# Altium footprint library Connector_FFC-FPC.PcbLib: 184 footprints (part 5 of 12)
Each footprint in its own frame and in the unit in brackets; x right, y up, seen from the top. Pads: shape width x height; smd on the part's side, far side on the other; paste and mask are expansions set on the pad; w line width, h text height; cw(c..) or ccw(c..) is an arc to the next point about the centre after c.
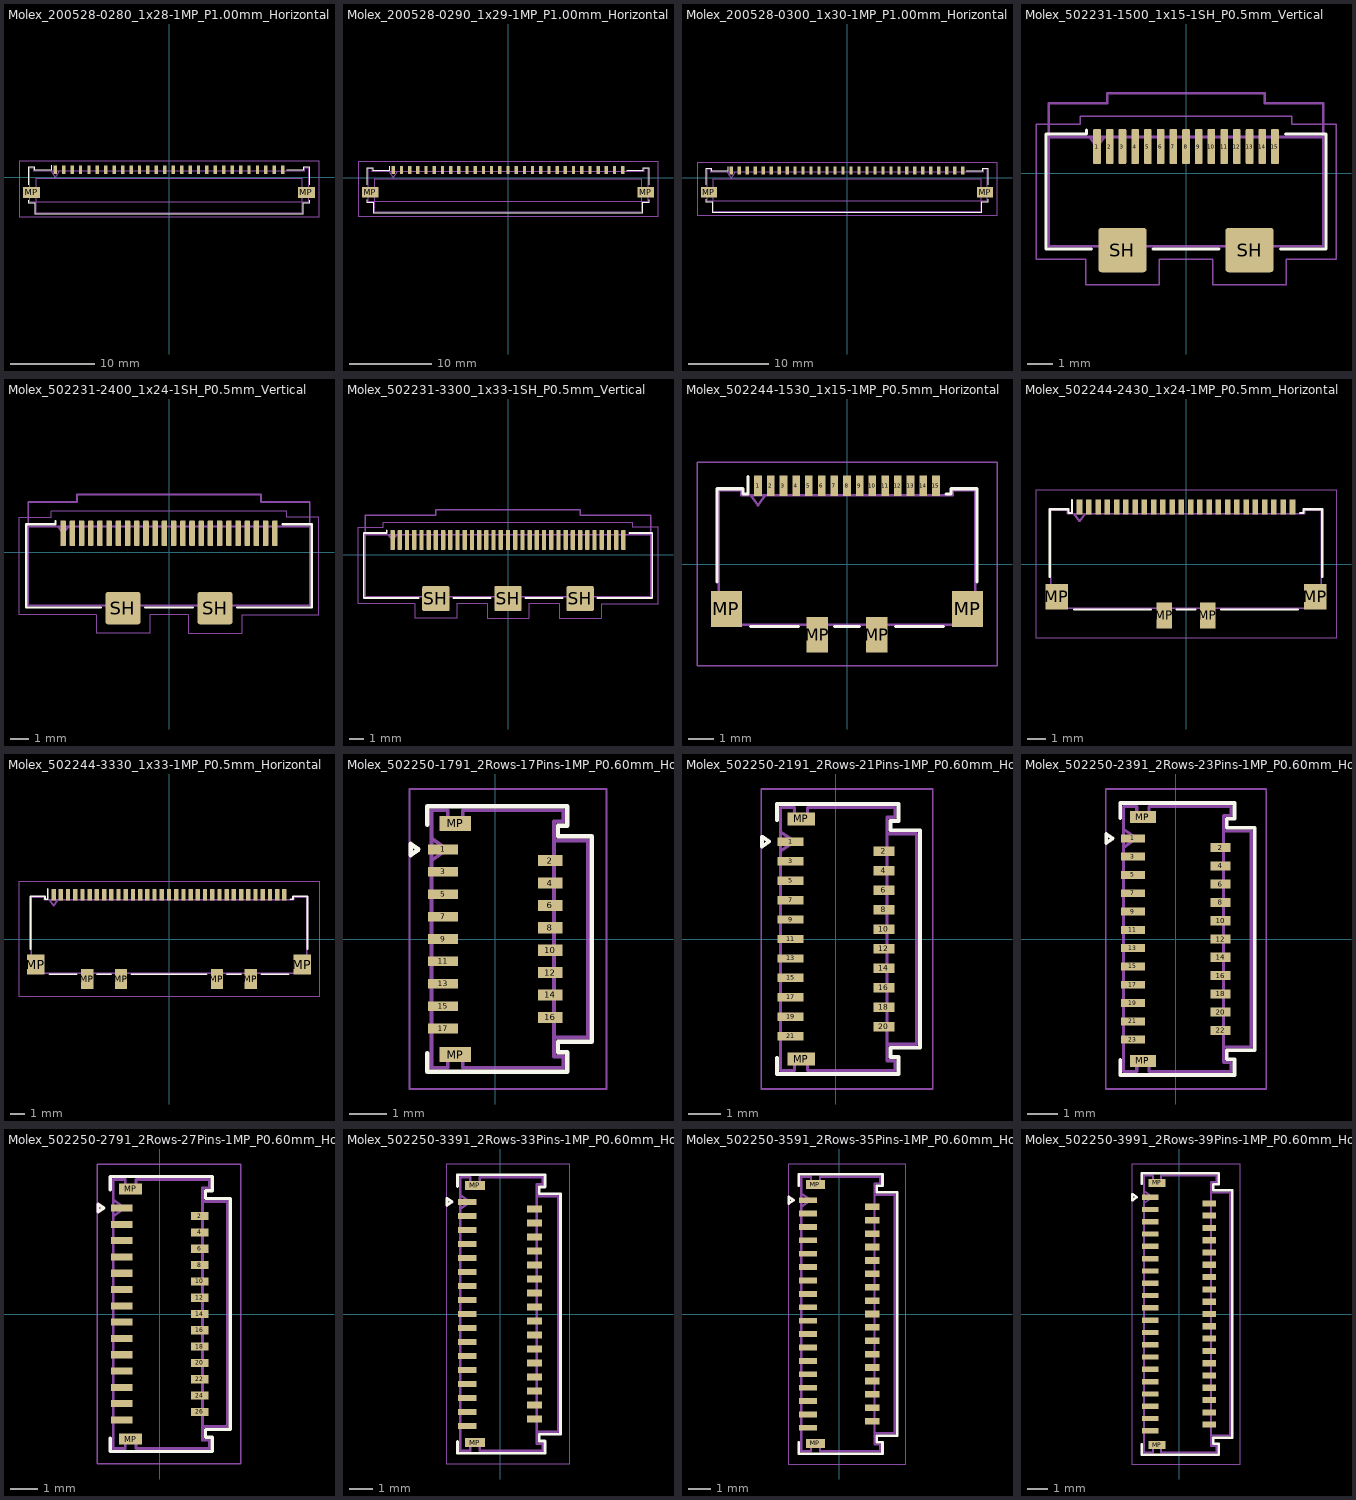
[diagram p4: the footprints below, top view; thin cyan lines are the x and y axes]

## Molex_200528-0280_1x28-1MP_P1.00mm_Horizontal [mm]
pads (30):
  rect 0.4x1 smd: 1(-13.5,0.91) 2(-12.5,0.91) 3(-11.5,0.91) 4(-10.5,0.91) 5(-9.5,0.91) 6(-8.5,0.91) 7(-7.5,0.91) 8(-6.5,0.91) 9(-5.5,0.91) 10(-4.5,0.91) 11(-3.5,0.91) 12(-2.5,0.91) 13(-1.5,0.91) 14(-0.5,0.91) 15(0.5,0.91) 16(1.5,0.91) 17(2.5,0.91) 18(3.5,0.91) 19(4.5,0.91) 20(5.5,0.91) 21(6.5,0.91) 22(7.5,0.91) 23(8.5,0.91) 24(9.5,0.91) 25(10.5,0.91) 26(11.5,0.91) 27(12.5,0.91) 28(13.5,0.91)
  rect 2x1.3 smd: MP(-16.3,-1.79) MP(16.3,-1.79)
F.SilkS:
  lines w0.12: -16.71,-2.7 -16.71,-3 -15.91,-3 -15.91,-4.3 15.91,-4.3 15.91,-3 16.71,-3 16.71,-2.7 ; -16.71,-0.88 -16.71,1.17 -15.94,1.17 -15.94,0.82 -13.96,0.82 -13.96,1.41 ; 13.96,0.82 15.94,0.82 15.94,1.17 16.71,1.17 16.71,-0.88
F.CrtYd:
  lines w0.05: -17.8,-4.69 -17.8,1.91 17.8,1.91 17.8,-4.69 -17.8,-4.69
F.Fab:
  lines w0.1: -14,0.71 -13.5,-0.04 -13,0.71 ; -16.6,-2.89 16.6,-2.89 16.6,1.06 16.05,1.06 16.05,0.71 -16.05,0.71 -16.05,1.06 -16.6,1.06 -16.6,-2.89 ; -15.8,-4.19 15.8,-4.19 15.8,-0.19 -15.8,-0.19 -15.8,-4.19
  text "'.Designator'" at -4.047,-2.23 h1

## Molex_200528-0290_1x29-1MP_P1.00mm_Horizontal [mm]
pads (31):
  rect 0.4x1 smd: 1(-14,0.91) 2(-13,0.91) 3(-12,0.91) 4(-11,0.91) 5(-10,0.91) 6(-9,0.91) 7(-8,0.91) 8(-7,0.91) 9(-6,0.91) 10(-5,0.91) 11(-4,0.91) 12(-3,0.91) 13(-2,0.91) 14(-1,0.91) 15(0,0.91) 16(1,0.91) 17(2,0.91) 18(3,0.91) 19(4,0.91) 20(5,0.91) 21(6,0.91) 22(7,0.91) 23(8,0.91) 24(9,0.91) 25(10,0.91) 26(11,0.91) 27(12,0.91) 28(13,0.91) 29(14,0.91)
  rect 2x1.3 smd: MP(-16.8,-1.79) MP(16.8,-1.79)
F.SilkS:
  lines w0.12: -17.21,-2.7 -17.21,-3 -16.41,-3 -16.41,-4.3 16.41,-4.3 16.41,-3 17.21,-3 17.21,-2.7 ; -17.21,-0.88 -17.21,1.17 -16.44,1.17 -16.44,0.82 -14.46,0.82 -14.46,1.41 ; 14.46,0.82 16.44,0.82 16.44,1.17 17.21,1.17 17.21,-0.88
F.CrtYd:
  lines w0.05: -18.3,-4.69 -18.3,1.91 18.3,1.91 18.3,-4.69 -18.3,-4.69
F.Fab:
  lines w0.1: -14.5,0.71 -14,-0.04 -13.5,0.71 ; -17.1,-2.89 17.1,-2.89 17.1,1.06 16.55,1.06 16.55,0.71 -16.55,0.71 -16.55,1.06 -17.1,1.06 -17.1,-2.89 ; -16.3,-4.19 -16.3,-0.19 16.3,-0.19 16.3,-4.19 -16.3,-4.19
  text "'.Designator'" at -4.047,-2.23 h1

## Molex_200528-0300_1x30-1MP_P1.00mm_Horizontal [mm]
pads (32):
  rect 0.4x1 smd: 1(-14.5,0.91) 2(-13.5,0.91) 3(-12.5,0.91) 4(-11.5,0.91) 5(-10.5,0.91) 6(-9.5,0.91) 7(-8.5,0.91) 8(-7.5,0.91) 9(-6.5,0.91) 10(-5.5,0.91) 11(-4.5,0.91) 12(-3.5,0.91) 13(-2.5,0.91) 14(-1.5,0.91) 15(-0.5,0.91) 16(0.5,0.91) 17(1.5,0.91) 18(2.5,0.91) 19(3.5,0.91) 20(4.5,0.91) 21(5.5,0.91) 22(6.5,0.91) 23(7.5,0.91) 24(8.5,0.91) 25(9.5,0.91) 26(10.5,0.91) 27(11.5,0.91) 28(12.5,0.91) 29(13.5,0.91) 30(14.5,0.91)
  rect 2x1.3 smd: MP(-17.3,-1.79) MP(17.3,-1.79)
F.SilkS:
  lines w0.12: -17.71,-2.7 -17.71,-3 -16.91,-3 -16.91,-4.3 16.91,-4.3 16.91,-3 17.71,-3 17.71,-2.7 ; -17.71,-0.88 -17.71,1.17 -16.94,1.17 -16.94,0.82 -14.96,0.82 -14.96,1.41 ; 14.96,0.82 16.94,0.82 16.94,1.17 17.71,1.17 17.71,-0.88
F.CrtYd:
  lines w0.05: -18.8,-4.69 -18.8,1.91 18.8,1.91 18.8,-4.69 -18.8,-4.69
F.Fab:
  lines w0.1: -15,0.71 -14.5,-0.04 -14,0.71 ; -17.6,-2.89 -17.6,1.06 -17.05,1.06 -17.05,0.71 17.05,0.71 17.05,1.06 17.6,1.06 17.6,-2.89 -17.6,-2.89 ; -16.8,-4.19 -16.8,-0.19 16.8,-0.19 16.8,-4.19 -16.8,-4.19
  text "'.Designator'" at -4.047,-2.23 h1

## Molex_502231-1500_1x15-1SH_P0.5mm_Vertical [mm]
pads (17):
  rrect25% 0.3x1.37 smd: 1(-3.5,1.045) 2(-3,1.045) 3(-2.5,1.045) 4(-2,1.045) 5(-1.5,1.045) 6(-1,1.045) 7(-0.5,1.045) 8(0,1.045) 9(0.5,1.045) 10(1,1.045) 11(1.5,1.045) 12(2,1.045) 13(2.5,1.045) 14(3,1.045) 15(3.5,1.045)
  rrect14% 1.9x1.75 smd: SH(-2.5,-3.025) SH(2.5,-3.025)
F.SilkS:
  lines w0.12: -3.91,1.7 -3.91,1.53 -5.51,1.53 -5.51,-2.99 -3.71,-2.99 ; -1.29,-2.99 1.29,-2.99 ; 3.71,-2.99 5.51,-2.99 5.51,1.53 3.91,1.53
F.CrtYd:
  lines w0.05: -5.9,-3.38 -3.95,-3.38 -3.95,-4.4 -1.05,-4.4 -1.05,-3.38 1.05,-3.38 1.05,-4.4 3.95,-4.4 3.95,-3.38 5.9,-3.38 5.9,1.92 4.15,1.92 4.15,2.23 -4.15,2.23 -4.15,1.92 -5.9,1.92 -5.9,-3.38
F.Fab:
  lines w0.1: -3.8,1.42 -3.5,1.02 -3.2,1.42 ; -5.4,-2.88 -5.4,1.42 5.4,1.42 5.4,-2.88 -5.4,-2.88
  text "'.Designator'" at -4.047,-1.57 h1
Cmts.User:
  lines w0.1: -5.4,1.42 -5.4,2.75 -3.1,2.75 -3.1,3.15 3.1,3.15 3.1,2.75 5.4,2.75 5.4,1.42
  text "Lock at height 2.4mm" at -3.883,1.865 h0.5

## Molex_502231-2400_1x24-1SH_P0.5mm_Vertical [mm]
pads (26):
  rrect25% 0.3x1.37 smd: 1(-5.75,1.045) 2(-5.25,1.045) 3(-4.75,1.045) 4(-4.25,1.045) 5(-3.75,1.045) 6(-3.25,1.045) 7(-2.75,1.045) 8(-2.25,1.045) 9(-1.75,1.045) 10(-1.25,1.045) 11(-0.75,1.045) 12(-0.25,1.045) 13(0.25,1.045) 14(0.75,1.045) 15(1.25,1.045) 16(1.75,1.045) 17(2.25,1.045) 18(2.75,1.045) 19(3.25,1.045) 20(3.75,1.045) 21(4.25,1.045) 22(4.75,1.045) 23(5.25,1.045) 24(5.75,1.045)
  rrect14% 1.9x1.75 smd: SH(-2.5,-3.025) SH(2.5,-3.025)
F.SilkS:
  lines w0.12: -6.16,1.7 -6.16,1.53 -7.76,1.53 -7.76,-2.99 -3.71,-2.99 ; -1.29,-2.99 1.29,-2.99 ; 3.71,-2.99 7.76,-2.99 7.76,1.53 6.16,1.53
F.CrtYd:
  lines w0.05: -8.15,-3.38 -8.15,1.92 -6.4,1.92 -6.4,2.23 6.4,2.23 6.4,1.92 8.15,1.92 8.15,-3.38 3.95,-3.38 3.95,-4.4 1.05,-4.4 1.05,-3.38 -1.05,-3.38 -1.05,-4.4 -3.95,-4.4 -3.95,-3.38 -8.15,-3.38
F.Fab:
  lines w0.1: -6.05,1.42 -5.75,1.02 -5.45,1.42 ; -7.65,-2.88 7.65,-2.88 7.65,1.42 -7.65,1.42 -7.65,-2.88
  text "'.Designator'" at -4.047,-1.57 h1
Cmts.User:
  lines w0.1: -7.65,1.42 -7.65,2.75 -5,2.75 -5,3.15 5,3.15 5,2.75 7.65,2.75 7.65,1.42
  text "Lock at height 2.4mm" at -3.883,1.865 h0.5

## Molex_502231-3300_1x33-1SH_P0.5mm_Vertical [mm]
pads (36):
  rrect25% 0.3x1.37 smd: 1(-8,1.045) 2(-7.5,1.045) 3(-7,1.045) 4(-6.5,1.045) 5(-6,1.045) 6(-5.5,1.045) 7(-5,1.045) 8(-4.5,1.045) 9(-4,1.045) 10(-3.5,1.045) 11(-3,1.045) 12(-2.5,1.045) 13(-2,1.045) 14(-1.5,1.045) 15(-1,1.045) 16(-0.5,1.045) 17(0,1.045) 18(0.5,1.045) 19(1,1.045) 20(1.5,1.045) 21(2,1.045) 22(2.5,1.045) 23(3,1.045) 24(3.5,1.045) 25(4,1.045) 26(4.5,1.045) 27(5,1.045) 28(5.5,1.045) 29(6,1.045) 30(6.5,1.045) 31(7,1.045) 32(7.5,1.045) 33(8,1.045)
  rrect14% 1.9x1.75 smd: SH(-5,-3.025) SH(0,-3.025) SH(5,-3.025)
F.SilkS:
  lines w0.12: -8.41,1.7 -8.41,1.53 -10.01,1.53 -10.01,-2.99 -6.21,-2.99 ; -3.79,-2.99 -1.21,-2.99 ; 1.21,-2.99 3.79,-2.99 ; 6.21,-2.99 10.01,-2.99 10.01,1.53 8.41,1.53
F.CrtYd:
  lines w0.05: -10.4,-3.38 -10.4,1.92 -8.65,1.92 -8.65,2.23 8.65,2.23 8.65,1.92 10.4,1.92 10.4,-3.38 6.45,-3.38 6.45,-4.4 3.55,-4.4 3.55,-3.38 1.45,-3.38 1.45,-4.4 -1.45,-4.4 -1.45,-3.38 -3.55,-3.38 -3.55,-4.4 -6.45,-4.4 -6.45,-3.38 -10.4,-3.38
F.Fab:
  lines w0.1: -8.3,1.42 -8,1.02 -7.7,1.42 ; -9.9,-2.88 9.9,-2.88 9.9,1.42 -9.9,1.42 -9.9,-2.88
  text "'.Designator'" at -4.047,-1.57 h1
Cmts.User:
  lines w0.1: -9.9,1.42 -9.9,2.75 -5,2.75 -5,3.15 5,3.15 5,2.75 9.9,2.75 9.9,1.42
  text "Lock at height 2.4mm" at -3.883,1.865 h0.5

## Molex_502244-1530_1x15-1MP_P0.5mm_Horizontal [mm]
pads (19):
  rect 0.3x0.8 smd: 1(-3.5,3.08) 2(-3,3.08) 3(-2.5,3.08) 4(-2,3.08) 5(-1.5,3.08) 6(-1,3.08) 7(-0.5,3.08) 8(0,3.08) 9(0.5,3.08) 10(1,3.08) 11(1.5,3.08) 12(2,3.08) 13(2.5,3.08) 14(3,3.08) 15(3.5,3.08)
  rect 1.22x1.4 smd: MP(-4.74,-1.77) MP(4.74,-1.77)
  rect 0.85x1.4 smd: MP(-1.175,-2.78) MP(1.175,-2.78)
F.SilkS:
  lines w0.12: -5.11,-0.7 -5.11,2.96 -4.1,2.96 ; -4.09,2.96 -4.09,2.76 -3.9,2.76 -3.9,3.45 ; -3.8,-2.45 -1.9,-2.45 ; -0.5,-2.45 0.5,-2.45 ; 1.9,-2.45 3.8,-2.45 ; 3.9,2.76 4.09,2.76 4.09,2.96 ; 4.1,2.96 5.11,2.96 5.11,-0.7
F.CrtYd:
  lines w0.05: -5.9,-4 5.9,-4 5.9,4 -5.9,4 -5.9,-4
F.Fab:
  lines w0.1: -3.8,2.71 -3.5,2.31 -3.2,2.71 ; -5.05,-2.39 5.05,-2.39 5.05,2.91 4.15,2.91 4.15,2.71 -4.15,2.71 -4.15,2.91 -5.05,2.91 -5.05,-2.39
  text "'.Designator'" at -4.047,0.16 h1
Cmts.User:
  text "KEEPOUT" at -3.078,-1.871 h1

## Molex_502244-2430_1x24-1MP_P0.5mm_Horizontal [mm]
pads (28):
  rect 0.3x0.8 smd: 1(-5.75,3.08) 2(-5.25,3.08) 3(-4.75,3.08) 4(-4.25,3.08) 5(-3.75,3.08) 6(-3.25,3.08) 7(-2.75,3.08) 8(-2.25,3.08) 9(-1.75,3.08) 10(-1.25,3.08) 11(-0.75,3.08) 12(-0.25,3.08) 13(0.25,3.08) 14(0.75,3.08) 15(1.25,3.08) 16(1.75,3.08) 17(2.25,3.08) 18(2.75,3.08) 19(3.25,3.08) 20(3.75,3.08) 21(4.25,3.08) 22(4.75,3.08) 23(5.25,3.08) 24(5.75,3.08)
  rect 1.22x1.4 smd: MP(-6.99,-1.77) MP(6.99,-1.77)
  rect 0.85x1.4 smd: MP(-1.175,-2.78) MP(1.175,-2.78)
F.SilkS:
  lines w0.12: -7.36,-0.7 -7.36,2.96 -6.35,2.96 ; -6.34,2.96 -6.34,2.76 -6.15,2.76 -6.15,3.45 ; -6.05,-2.45 -1.9,-2.45 ; -0.5,-2.45 0.5,-2.45 ; 1.9,-2.45 6.05,-2.45 ; 6.15,2.76 6.34,2.76 6.34,2.96 ; 6.35,2.96 7.36,2.96 7.36,-0.7
F.CrtYd:
  lines w0.05: -8.1,-4 -8.1,4 8.1,4 8.1,-4 -8.1,-4
F.Fab:
  lines w0.1: -6.05,2.71 -5.75,2.31 -5.45,2.71 ; -7.3,-2.39 -7.3,2.91 -6.4,2.91 -6.4,2.71 6.4,2.71 6.4,2.91 7.3,2.91 7.3,-2.39 -7.3,-2.39
  text "'.Designator'" at -4.047,0.16 h1
Cmts.User:
  text "KEEPOUT" at -3.078,-1.871 h1

## Molex_502244-3330_1x33-1MP_P0.5mm_Horizontal [mm]
pads (39):
  rect 0.3x0.8 smd: 1(-8,3.08) 2(-7.5,3.08) 3(-7,3.08) 4(-6.5,3.08) 5(-6,3.08) 6(-5.5,3.08) 7(-5,3.08) 8(-4.5,3.08) 9(-4,3.08) 10(-3.5,3.08) 11(-3,3.08) 12(-2.5,3.08) 13(-2,3.08) 14(-1.5,3.08) 15(-1,3.08) 16(-0.5,3.08) 17(0,3.08) 18(0.5,3.08) 19(1,3.08) 20(1.5,3.08) 21(2,3.08) 22(2.5,3.08) 23(3,3.08) 24(3.5,3.08) 25(4,3.08) 26(4.5,3.08) 27(5,3.08) 28(5.5,3.08) 29(6,3.08) 30(6.5,3.08) 31(7,3.08) 32(7.5,3.08) 33(8,3.08)
  rect 1.22x1.4 smd: MP(-9.24,-1.77) MP(9.24,-1.77)
  rect 0.85x1.4 smd: MP(-5.675,-2.78) MP(-3.325,-2.78) MP(3.325,-2.78) MP(5.675,-2.78)
F.SilkS:
  lines w0.12: -9.61,-0.7 -9.61,2.96 -8.6,2.96 ; -8.59,2.96 -8.59,2.76 -8.4,2.76 -8.4,3.46 ; -8.3,-2.45 -6.4,-2.45 ; -5,-2.45 -4,-2.45 ; -2.6,-2.45 2.6,-2.45 ; 4,-2.45 5,-2.45 ; 6.4,-2.45 8.3,-2.45 ; 8.4,2.76 8.59,2.76 8.59,2.96 ; 8.6,2.96 9.61,2.96 9.61,-0.7
F.CrtYd:
  lines w0.05: -10.4,-4 -10.4,4 10.4,4 10.4,-4 -10.4,-4
F.Fab:
  lines w0.1: -8.3,2.71 -8,2.31 -7.7,2.71 ; -9.55,-2.39 9.55,-2.39 9.55,2.91 8.65,2.91 8.65,2.71 -8.65,2.71 -8.65,2.91 -9.55,2.91 -9.55,-2.39
  text "'.Designator'" at -4.047,0.16 h1
Cmts.User:
  text "KEEPOUT" at -3.078,-1.871 h1

## Molex_502250-1791_2Rows-17Pins-1MP_P0.60mm_Horizontal [mm]
pads (19):
  rect 0.8x0.26 smd: 1(-1.4,2.4) 3(-1.4,1.8) 5(-1.4,1.2) 7(-1.4,0.6) 9(-1.4,0) 11(-1.4,-0.6) 13(-1.4,-1.2) 15(-1.4,-1.8) 17(-1.4,-2.4)
  rect 0.65x0.3 smd: 2(1.475,2.1) 4(1.475,1.5) 6(1.475,0.9) 8(1.475,0.3) 10(1.475,-0.3) 12(1.475,-0.9) 14(1.475,-1.5) 16(1.475,-2.1)
  rect 0.85x0.4 smd: MP(-1.075,-3.1) MP(-1.075,3.1)
F.SilkS:
  lines w0.12: -1.82,-3.06 -1.82,-3.56 1.93,-3.56 1.93,-3.04 1.68,-3.04 1.68,-2.75 2.59,-2.75 2.59,0 2.59,2.75 1.68,2.75 1.68,3.04 1.93,3.04 1.93,3.56 -1.82,3.56 -1.82,3.06 ; -2.272,2.25 -2.06,2.4 -2.272,2.55 -2.272,2.25
F.CrtYd:
  lines w0.05: -2.3,-4.02 2.98,-4.02 2.98,4.02 -2.3,4.02 -2.3,-4.02
F.Fab:
  lines w0.1: -1.71,2.1 -1.286,2.4 -1.71,2.7 ; 1.57,-2.64 2.48,-2.64 2.48,2.64 1.57,2.64 ; -1.71,-3.45 -1.71,0 -1.71,3.45 -1.275,3.45 -1.275,3.15 -0.875,3.15 -0.875,3.45 1.82,3.45 1.82,3.15 1.57,3.15 1.57,0 1.57,-3.15 1.82,-3.15 1.82,-3.45 -0.875,-3.45 -0.875,-3.15 -1.275,-3.15 -1.275,-3.45 -1.71,-3.45
  text "'.Designator'" at 1.646,-3.315 h0.82

## Molex_502250-2191_2Rows-21Pins-1MP_P0.60mm_Horizontal [mm]
pads (23):
  rect 0.8x0.26 smd: 1(-1.4,3) 3(-1.4,2.4) 5(-1.4,1.8) 7(-1.4,1.2) 9(-1.4,0.6) 11(-1.4,0) 13(-1.4,-0.6) 15(-1.4,-1.2) 17(-1.4,-1.8) 19(-1.4,-2.4) 21(-1.4,-3)
  rect 0.65x0.3 smd: 2(1.475,2.7) 4(1.475,2.1) 6(1.475,1.5) 8(1.475,0.9) 10(1.475,0.3) 12(1.475,-0.3) 14(1.475,-0.9) 16(1.475,-1.5) 18(1.475,-2.1) 20(1.475,-2.7)
  rect 0.85x0.4 smd: MP(-1.075,-3.7) MP(-1.075,3.7)
F.SilkS:
  lines w0.12: -1.82,-3.66 -1.82,-4.16 1.93,-4.16 1.93,-3.64 1.68,-3.64 1.68,-3.35 2.59,-3.35 2.59,0 2.59,3.35 1.68,3.35 1.68,3.64 1.93,3.64 1.93,4.16 -1.82,4.16 -1.82,3.66 ; -2.272,2.85 -2.272,3.15 -2.06,3 -2.272,2.85
F.CrtYd:
  lines w0.05: -2.3,-4.62 2.98,-4.62 2.98,4.62 -2.3,4.62 -2.3,-4.62
F.Fab:
  lines w0.1: -1.71,2.7 -1.286,3 -1.71,3.3 ; 1.57,-3.24 2.48,-3.24 2.48,3.24 1.57,3.24 ; -1.71,-4.05 -1.275,-4.05 -1.275,-3.75 -0.875,-3.75 -0.875,-4.05 1.82,-4.05 1.82,-3.75 1.57,-3.75 1.57,0 1.57,3.75 1.82,3.75 1.82,4.05 -0.875,4.05 -0.875,3.75 -1.275,3.75 -1.275,4.05 -1.71,4.05 -1.71,0 -1.71,-4.05
  text "'.Designator'" at 1.646,-3.315 h0.82

## Molex_502250-2391_2Rows-23Pins-1MP_P0.60mm_Horizontal [mm]
pads (25):
  rect 0.8x0.26 smd: 1(-1.4,3.3) 3(-1.4,2.7) 5(-1.4,2.1) 7(-1.4,1.5) 9(-1.4,0.9) 11(-1.4,0.3) 13(-1.4,-0.3) 15(-1.4,-0.9) 17(-1.4,-1.5) 19(-1.4,-2.1) 21(-1.4,-2.7) 23(-1.4,-3.3)
  rect 0.65x0.3 smd: 2(1.475,3) 4(1.475,2.4) 6(1.475,1.8) 8(1.475,1.2) 10(1.475,0.6) 12(1.475,0) 14(1.475,-0.6) 16(1.475,-1.2) 18(1.475,-1.8) 20(1.475,-2.4) 22(1.475,-3)
  rect 0.85x0.4 smd: MP(-1.075,-4) MP(-1.075,4)
F.SilkS:
  lines w0.12: -1.82,-3.96 -1.82,-4.46 1.93,-4.46 1.93,-3.94 1.68,-3.94 1.68,-3.65 2.59,-3.65 2.59,0 2.59,3.65 1.68,3.65 1.68,3.94 1.93,3.94 1.93,4.46 -1.82,4.46 -1.82,3.96 ; -2.272,3.15 -2.272,3.45 -2.06,3.3 -2.272,3.15
F.CrtYd:
  lines w0.05: -2.3,-4.92 -2.3,4.92 2.98,4.92 2.98,-4.92 -2.3,-4.92
F.Fab:
  lines w0.1: -1.71,3 -1.286,3.3 -1.71,3.6 ; 1.57,-3.54 2.48,-3.54 2.48,3.54 1.57,3.54 ; -1.71,-4.35 -1.275,-4.35 -1.275,-4.05 -0.875,-4.05 -0.875,-4.35 1.82,-4.35 1.82,-4.05 1.57,-4.05 1.57,0 1.57,4.05 1.82,4.05 1.82,4.35 -0.875,4.35 -0.875,4.05 -1.275,4.05 -1.275,4.35 -1.71,4.35 -1.71,0 -1.71,-4.35
  text "'.Designator'" at 1.646,-3.315 h0.82

## Molex_502250-2791_2Rows-27Pins-1MP_P0.60mm_Horizontal [mm]
pads (29):
  rect 0.8x0.26 smd: 1(-1.4,3.9) 3(-1.4,3.3) 5(-1.4,2.7) 7(-1.4,2.1) 9(-1.4,1.5) 11(-1.4,0.9) 13(-1.4,0.3) 15(-1.4,-0.3) 17(-1.4,-0.9) 19(-1.4,-1.5) 21(-1.4,-2.1) 23(-1.4,-2.7) 25(-1.4,-3.3) 27(-1.4,-3.9)
  rect 0.65x0.3 smd: 2(1.475,3.6) 4(1.475,3) 6(1.475,2.4) 8(1.475,1.8) 10(1.475,1.2) 12(1.475,0.6) 14(1.475,0) 16(1.475,-0.6) 18(1.475,-1.2) 20(1.475,-1.8) 22(1.475,-2.4) 24(1.475,-3) 26(1.475,-3.6)
  rect 0.85x0.4 smd: MP(-1.075,-4.6) MP(-1.075,4.6)
F.SilkS:
  lines w0.12: -1.82,-4.56 -1.82,-5.06 1.93,-5.06 1.93,-4.54 1.68,-4.54 1.68,-4.25 2.59,-4.25 2.59,0 2.59,4.25 1.68,4.25 1.68,4.54 1.93,4.54 1.93,5.06 -1.82,5.06 -1.82,4.56 ; -2.272,3.75 -2.272,4.05 -2.06,3.9 -2.272,3.75
F.CrtYd:
  lines w0.05: -2.3,-5.52 -2.3,5.52 2.98,5.52 2.98,-5.52 -2.3,-5.52
F.Fab:
  lines w0.1: -1.71,3.6 -1.286,3.9 -1.71,4.2 ; 1.57,-4.14 2.48,-4.14 2.48,4.14 1.57,4.14 ; -1.71,-4.95 -1.275,-4.95 -1.275,-4.65 -0.875,-4.65 -0.875,-4.95 1.82,-4.95 1.82,-4.65 1.57,-4.65 1.57,0 1.57,4.65 1.82,4.65 1.82,4.95 -0.875,4.95 -0.875,4.65 -1.275,4.65 -1.275,4.95 -1.71,4.95 -1.71,0 -1.71,-4.95
  text "'.Designator'" at 1.646,-3.315 h0.82

## Molex_502250-3391_2Rows-33Pins-1MP_P0.60mm_Horizontal [mm]
pads (35):
  rect 0.8x0.26 smd: 1(-1.4,4.8) 3(-1.4,4.2) 5(-1.4,3.6) 7(-1.4,3) 9(-1.4,2.4) 11(-1.4,1.8) 13(-1.4,1.2) 15(-1.4,0.6) 17(-1.4,0) 19(-1.4,-0.6) 21(-1.4,-1.2) 23(-1.4,-1.8) 25(-1.4,-2.4) 27(-1.4,-3) 29(-1.4,-3.6) 31(-1.4,-4.2) 33(-1.4,-4.8)
  rect 0.65x0.3 smd: 2(1.475,4.5) 4(1.475,3.9) 6(1.475,3.3) 8(1.475,2.7) 10(1.475,2.1) 12(1.475,1.5) 14(1.475,0.9) 16(1.475,0.3) 18(1.475,-0.3) 20(1.475,-0.9) 22(1.475,-1.5) 24(1.475,-2.1) 26(1.475,-2.7) 28(1.475,-3.3) 30(1.475,-3.9) 32(1.475,-4.5)
  rect 0.85x0.4 smd: MP(-1.075,-5.5) MP(-1.075,5.5)
F.SilkS:
  lines w0.12: -1.82,-5.46 -1.82,-5.96 1.93,-5.96 1.93,-5.44 1.68,-5.44 1.68,-5.15 2.59,-5.15 2.59,0 2.59,5.15 1.68,5.15 1.68,5.44 1.93,5.44 1.93,5.96 -1.82,5.96 -1.82,5.46 ; -2.272,4.65 -2.06,4.8 -2.272,4.95 -2.272,4.65
F.CrtYd:
  lines w0.05: -2.3,-6.42 -2.3,6.42 2.98,6.42 2.98,-6.42 -2.3,-6.42
F.Fab:
  lines w0.1: -1.71,4.5 -1.286,4.8 -1.71,5.1 ; 1.57,-5.04 2.48,-5.04 2.48,5.04 1.57,5.04 ; -1.71,-5.85 -1.71,0 -1.71,5.85 -1.275,5.85 -1.275,5.55 -0.875,5.55 -0.875,5.85 1.82,5.85 1.82,5.55 1.57,5.55 1.57,0 1.57,-5.55 1.82,-5.55 1.82,-5.85 -0.875,-5.85 -0.875,-5.55 -1.275,-5.55 -1.275,-5.85 -1.71,-5.85
  text "'.Designator'" at 1.646,-3.315 h0.82

## Molex_502250-3591_2Rows-35Pins-1MP_P0.60mm_Horizontal [mm]
pads (37):
  rect 0.8x0.26 smd: 1(-1.4,5.1) 3(-1.4,4.5) 5(-1.4,3.9) 7(-1.4,3.3) 9(-1.4,2.7) 11(-1.4,2.1) 13(-1.4,1.5) 15(-1.4,0.9) 17(-1.4,0.3) 19(-1.4,-0.3) 21(-1.4,-0.9) 23(-1.4,-1.5) 25(-1.4,-2.1) 27(-1.4,-2.7) 29(-1.4,-3.3) 31(-1.4,-3.9) 33(-1.4,-4.5) 35(-1.4,-5.1)
  rect 0.65x0.3 smd: 2(1.475,4.8) 4(1.475,4.2) 6(1.475,3.6) 8(1.475,3) 10(1.475,2.4) 12(1.475,1.8) 14(1.475,1.2) 16(1.475,0.6) 18(1.475,0) 20(1.475,-0.6) 22(1.475,-1.2) 24(1.475,-1.8) 26(1.475,-2.4) 28(1.475,-3) 30(1.475,-3.6) 32(1.475,-4.2) 34(1.475,-4.8)
  rect 0.85x0.4 smd: MP(-1.075,-5.8) MP(-1.075,5.8)
F.SilkS:
  lines w0.12: -1.82,-5.76 -1.82,-6.26 1.93,-6.26 1.93,-5.74 1.68,-5.74 1.68,-5.45 2.59,-5.45 2.59,0 2.59,5.45 1.68,5.45 1.68,5.74 1.93,5.74 1.93,6.26 -1.82,6.26 -1.82,5.76 ; -2.272,4.95 -2.272,5.25 -2.06,5.1 -2.272,4.95
F.CrtYd:
  lines w0.05: -2.3,-6.72 2.98,-6.72 2.98,6.72 -2.3,6.72 -2.3,-6.72
F.Fab:
  lines w0.1: -1.71,4.8 -1.286,5.1 -1.71,5.4 ; 1.57,-5.34 2.48,-5.34 2.48,5.34 1.57,5.34 ; -1.71,-6.15 -1.275,-6.15 -1.275,-5.85 -0.875,-5.85 -0.875,-6.15 1.82,-6.15 1.82,-5.85 1.57,-5.85 1.57,0 1.57,5.85 1.82,5.85 1.82,6.15 -0.875,6.15 -0.875,5.85 -1.275,5.85 -1.275,6.15 -1.71,6.15 -1.71,0 -1.71,-6.15
  text "'.Designator'" at 1.646,-3.315 h0.82

## Molex_502250-3991_2Rows-39Pins-1MP_P0.60mm_Horizontal [mm]
pads (41):
  rect 0.8x0.26 smd: 1(-1.4,5.7) 3(-1.4,5.1) 5(-1.4,4.5) 7(-1.4,3.9) 9(-1.4,3.3) 11(-1.4,2.7) 13(-1.4,2.1) 15(-1.4,1.5) 17(-1.4,0.9) 19(-1.4,0.3) 21(-1.4,-0.3) 23(-1.4,-0.9) 25(-1.4,-1.5) 27(-1.4,-2.1) 29(-1.4,-2.7) 31(-1.4,-3.3) 33(-1.4,-3.9) 35(-1.4,-4.5) 37(-1.4,-5.1) 39(-1.4,-5.7)
  rect 0.65x0.3 smd: 2(1.475,5.4) 4(1.475,4.8) 6(1.475,4.2) 8(1.475,3.6) 10(1.475,3) 12(1.475,2.4) 14(1.475,1.8) 16(1.475,1.2) 18(1.475,0.6) 20(1.475,0) 22(1.475,-0.6) 24(1.475,-1.2) 26(1.475,-1.8) 28(1.475,-2.4) 30(1.475,-3) 32(1.475,-3.6) 34(1.475,-4.2) 36(1.475,-4.8) 38(1.475,-5.4)
  rect 0.85x0.4 smd: MP(-1.075,-6.4) MP(-1.075,6.4)
F.SilkS:
  lines w0.12: -1.82,-6.36 -1.82,-6.86 1.93,-6.86 1.93,-6.34 1.68,-6.34 1.68,-6.05 2.59,-6.05 2.59,0 2.59,6.05 1.68,6.05 1.68,6.34 1.93,6.34 1.93,6.86 -1.82,6.86 -1.82,6.36 ; -2.272,5.55 -2.272,5.85 -2.06,5.7 -2.272,5.55
F.CrtYd:
  lines w0.05: -2.3,-7.32 2.98,-7.32 2.98,7.32 -2.3,7.32 -2.3,-7.32
F.Fab:
  lines w0.1: -1.71,5.4 -1.286,5.7 -1.71,6 ; 1.57,-5.94 2.48,-5.94 2.48,5.94 1.57,5.94 ; -1.71,-6.75 -1.275,-6.75 -1.275,-6.45 -0.875,-6.45 -0.875,-6.75 1.82,-6.75 1.82,-6.45 1.57,-6.45 1.57,0 1.57,6.45 1.82,6.45 1.82,6.75 -0.875,6.75 -0.875,6.45 -1.275,6.45 -1.275,6.75 -1.71,6.75 -1.71,0 -1.71,-6.75
  text "'.Designator'" at 1.646,-3.315 h0.82